# Altium schematic symbol library 3x1-Terminal.SchLib: 1 symbol
Pins are listed as number, name and electrical type; pins without a type are passive.

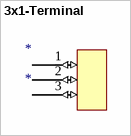
[diagram p0: symbol 3x1-Terminal]

## 3x1-Terminal
designator *
footprint 3x1-Terminal
pins: 1 (io), 2 (io), 3 (io)